# Altium footprint library LKT1AF-12V.PcbLib: 1 footprints
Each footprint in its own frame and in the unit in brackets; x right, y up, seen from the top. Pads: shape width x height; smd on the part's side, far side on the other; paste and mask are expansions set on the pad; w line width, h text height; cw(c..) or ccw(c..) is an arc to the next point about the centre after c.
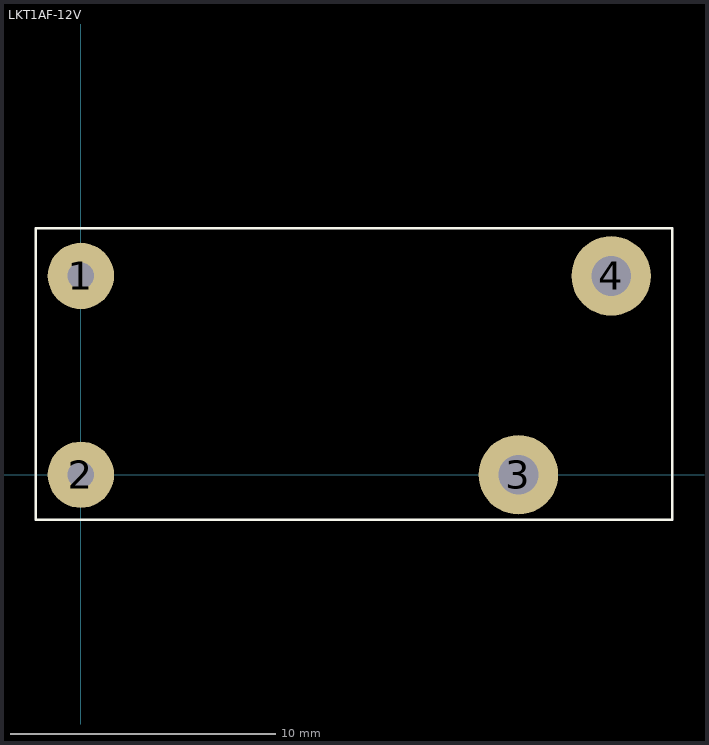
[diagram p0: the footprint, top view; thin cyan lines are the x and y axes]

## LKT1AF-12V [mm]
pads (4):
  round 2.5 hole 1: 1(0,7.5) 2(0,0)
  round 3 hole 1.5: 3(16.5,0) 4(20,7.5)
Top Overlay:
  lines w0.1: -1.7,-1.7 -1.7,9.3 22.3,9.3 22.3,6.55 22.3,1.05 22.3,-1.7 -1.7,-1.7